# Altium schematic symbol library Display_Character.SchLib: 130 symbols (part 1 of 2)
Pins are listed as number, name and electrical type; pins without a type are passive.

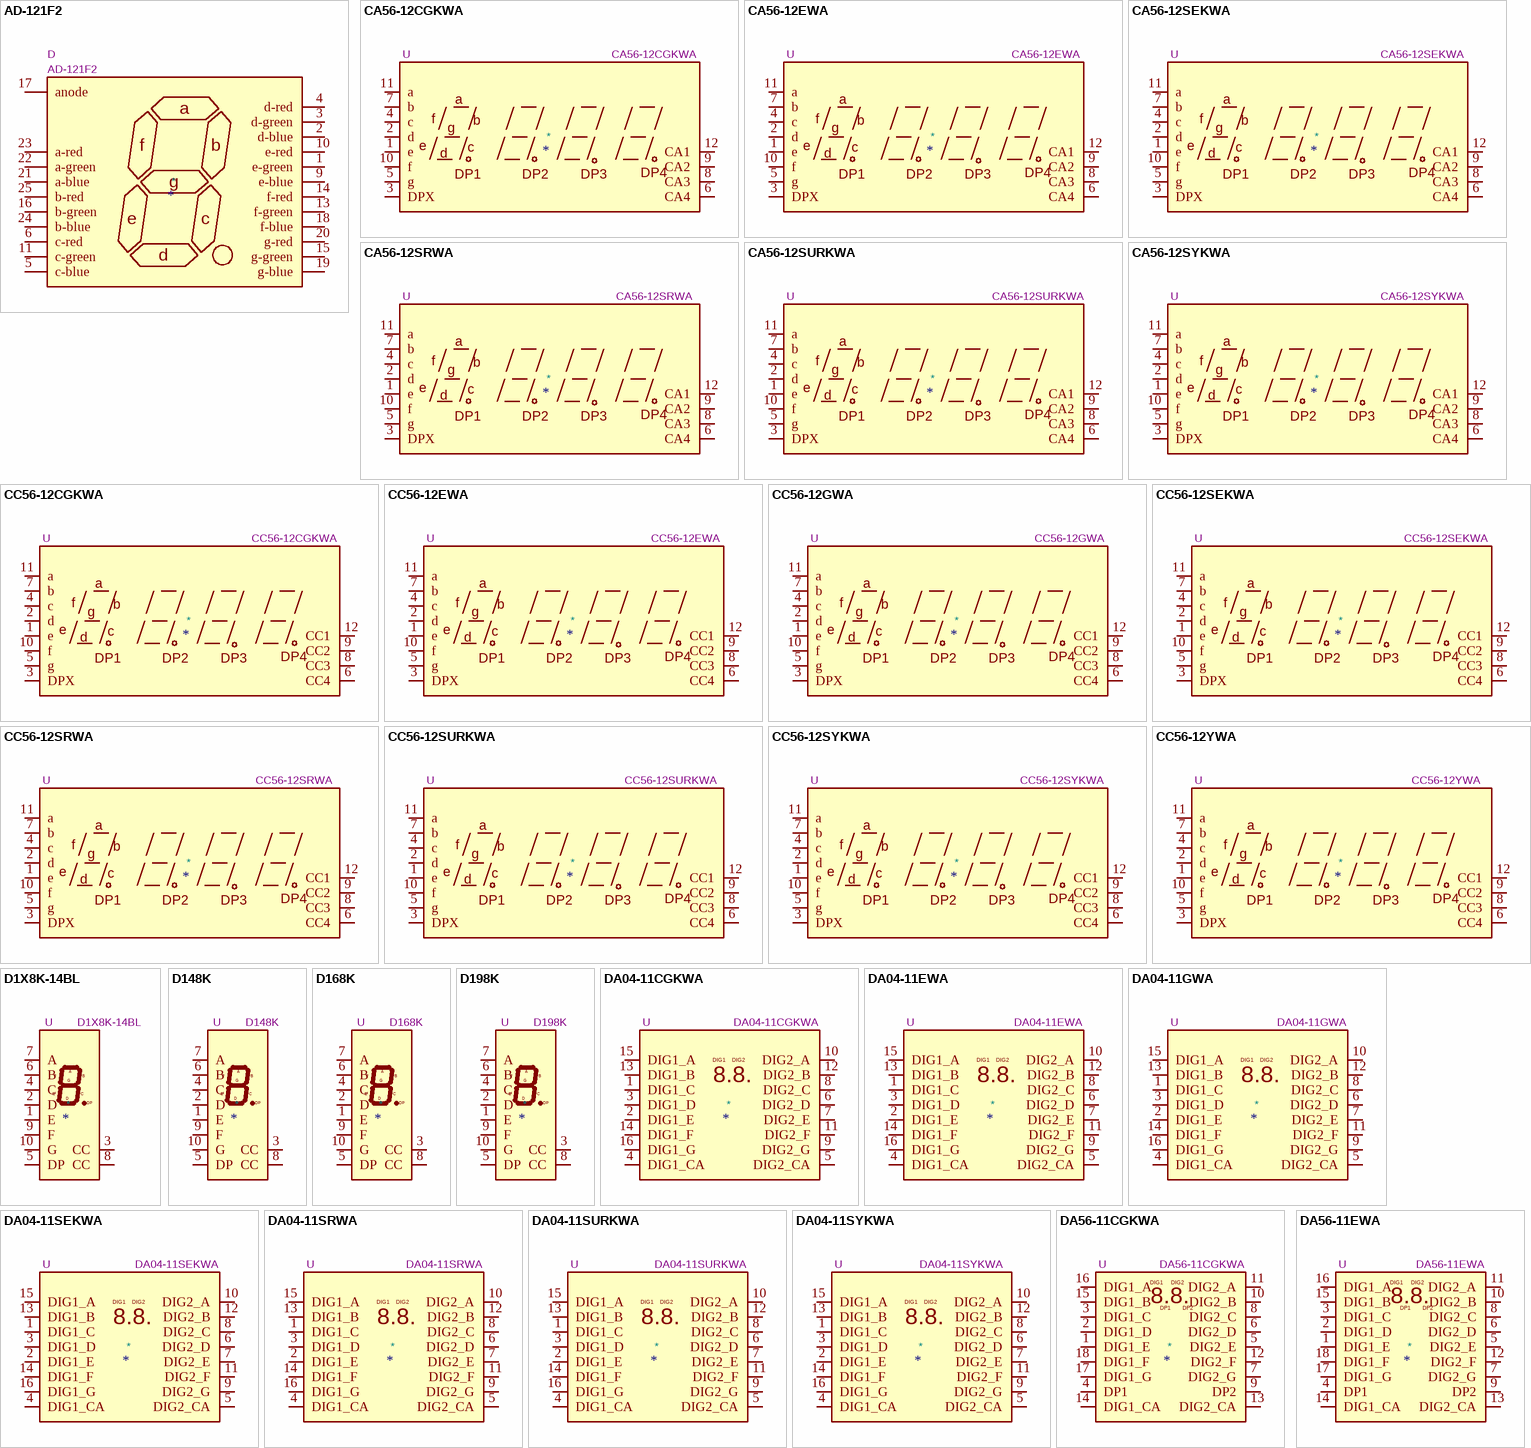
[diagram p0: symbols AD-121F2 to DA56-11EWA]

## AD-121F2
designator *  value AD-121F2  Reference: D
Single Digit 7-segment RGB LED Display, 1-inch digit height, common anode; ki_keywords: display RGB LED digit 7-segment; ki_fp_filters: AD*121F2*; Footprint: Display_7Segment:AD-121F2; Datasheet: http://usasyck.com/products/AD-121F2_cat_e.pdf; Description_: Single Digit 7-segment RGB LED Display, 1-inch digit height, common anode
pins: 1 e-green, 2 d-blue, 3 d-green, 4 d-red, 5 c-blue, 6 c-red, 9 e-blue, 10 e-red, 11 c-green, 13 f-green, 14 f-red, 15 g-green, 16 b-green, 17 anode, 18 f-blue, 19 g-blue, 20 g-red, 21 a-blue, 22 a-green, 23 a-red, 24 b-blue, 25 b-red
text: a; f; b; g; e; c; d

## CA56-12CGKWA
designator *  value CA56-12CGKWA  Reference: U
4 digit 7 segment Green LED, common anode; ki_keywords: display LED; ki_fp_filters: *CA56*12CGKWA*; Footprint: Display_7Segment:CA56-12CGKWA; Datasheet: http://www.kingbright.com/attachments/file/psearch/000/00/00/CA56-12CGKWA(Ver.9A).pdf; Description_: 4 digit 7 segment Green LED, common anode
pins: 1 e, 2 d, 3 DPX, 4 c, 5 g, 6 CA4, 7 b, 8 CA3, 9 CA2, 10 f, 11 a, 12 CA1
text: DP1; DP2; DP3; DP4

## CA56-12EWA
designator *  value CA56-12EWA  Reference: U
4 digit 7 segment high efficiency red LED, common anode; ki_keywords: display LED 7-segment; ki_fp_filters: *CA56*12EWA*; Footprint: Display_7Segment:CA56-12EWA; Datasheet: http://www.kingbrightusa.com/images/catalog/SPEC/CA56-12EWA.pdf; Description_: 4 digit 7 segment high efficiency red LED, common anode
pins: 1 e, 2 d, 3 DPX, 4 c, 5 g, 6 CA4, 7 b, 8 CA3, 9 CA2, 10 f, 11 a, 12 CA1
text: DP1; DP2; DP3; DP4

## CA56-12SEKWA
designator *  value CA56-12SEKWA  Reference: U
4 digit 7 segment super bright orange LED, common anode; ki_keywords: display LED 7-segment; ki_fp_filters: *CA56*12SEKWA*; Footprint: Display_7Segment:CA56-12SEKWA; Datasheet: http://www.kingbright.com/attachments/file/psearch/000/00/00/CA56-12SEKWA(Ver.7A).pdf; Description_: 4 digit 7 segment super bright orange LED, common anode
pins: 1 e, 2 d, 3 DPX, 4 c, 5 g, 6 CA4, 7 b, 8 CA3, 9 CA2, 10 f, 11 a, 12 CA1
text: DP1; DP2; DP3; DP4

## CA56-12SRWA
designator *  value CA56-12SRWA  Reference: U
4 digit 7 segment super bright red LED, common anode; ki_keywords: display LED 7-segment; ki_fp_filters: *CA56*12SRWA*; Footprint: Display_7Segment:CA56-12SRWA; Datasheet: http://www.kingbrightusa.com/images/catalog/SPEC/CA56-12SRWA.pdf; Description_: 4 digit 7 segment super bright red LED, common anode
pins: 1 e, 2 d, 3 DPX, 4 c, 5 g, 6 CA4, 7 b, 8 CA3, 9 CA2, 10 f, 11 a, 12 CA1
text: DP1; DP2; DP3; DP4

## CA56-12SURKWA
designator *  value CA56-12SURKWA  Reference: U
4 digit 7 segment hyper red LED, common anode; ki_keywords: display LED 7-segment; ki_fp_filters: *CA56*12SURKWA*; Footprint: Display_7Segment:CA56-12SURKWA; Datasheet: http://www.kingbright.com/attachments/file/psearch/000/00/00/CA56-12SURKWA(Ver.8A).pdf; Description_: 4 digit 7 segment hyper red LED, common anode
pins: 1 e, 2 d, 3 DPX, 4 c, 5 g, 6 CA4, 7 b, 8 CA3, 9 CA2, 10 f, 11 a, 12 CA1
text: DP1; DP2; DP3; DP4

## CA56-12SYKWA
designator *  value CA56-12SYKWA  Reference: U
4 digit 7 segment super bright yellow LED, common anode; ki_keywords: display LED 7-segment; ki_fp_filters: *CA56*12SYKWA*; Footprint: Display_7Segment:CA56-12SYKWA; Datasheet: http://www.kingbright.com/attachments/file/psearch/000/00/00/CA56-12SYKWA(Ver.6A).pdf; Description_: 4 digit 7 segment super bright yellow LED, common anode
pins: 1 e, 2 d, 3 DPX, 4 c, 5 g, 6 CA4, 7 b, 8 CA3, 9 CA2, 10 f, 11 a, 12 CA1
text: DP1; DP2; DP3; DP4

## CC56-12CGKWA
designator *  value CC56-12CGKWA  Reference: U
4 digit 7 segment green LED, common cathode; ki_keywords: display LED 7-segment; ki_fp_filters: *CA56*12CGKWA*; Footprint: Display_7Segment:CA56-12CGKWA; Datasheet: http://www.kingbright.com/attachments/file/psearch/000/00/00/CC56-12CGKWA(Ver.8A).pdf; Description_: 4 digit 7 segment green LED, common cathode
pins: 1 e, 2 d, 3 DPX, 4 c, 5 g, 6 CC4, 7 b, 8 CC3, 9 CC2, 10 f, 11 a, 12 CC1
text: DP1; DP2; DP3; DP4

## CC56-12EWA
designator *  value CC56-12EWA  Reference: U
4 digit 7 segment high efficiency red LED, common cathode; ki_keywords: display LED 7-segment; ki_fp_filters: *CA56*12EWA*; Footprint: Display_7Segment:CA56-12EWA; Datasheet: http://www.kingbrightusa.com/images/catalog/SPEC/CA56-12EWA.pdf; Description_: 4 digit 7 segment high efficiency red LED, common cathode
pins: 1 e, 2 d, 3 DPX, 4 c, 5 g, 6 CC4, 7 b, 8 CC3, 9 CC2, 10 f, 11 a, 12 CC1
text: DP1; DP2; DP3; DP4

## CC56-12GWA
designator *  value CC56-12GWA  Reference: U
4 digit 7 segment green LED, common cathode; ki_keywords: display LED 7-segment; ki_fp_filters: CC56?12GWA*; Footprint: Display_7Segment:CC56-12GWA; Datasheet: http://www.kingbrightusa.com/images/catalog/SPEC/CC56-12GWA.pdf; Description_: 4 digit 7 segment green LED, common cathode
pins: 1 e, 2 d, 3 DPX, 4 c, 5 g, 6 CC4, 7 b, 8 CC3, 9 CC2, 10 f, 11 a, 12 CC1
text: DP1; DP2; DP3; DP4

## CC56-12SEKWA
designator *  value CC56-12SEKWA  Reference: U
4 digit 7 segment super bright orange LED, common cathode; ki_keywords: display LED 7-segment; ki_fp_filters: *CA56*12SEKWA*; Footprint: Display_7Segment:CA56-12SEKWA; Datasheet: http://www.kingbright.com/attachments/file/psearch/000/00/00/CC56-12SEKWA(Ver.7A).pdf; Description_: 4 digit 7 segment super bright orange LED, common cathode
pins: 1 e, 2 d, 3 DPX, 4 c, 5 g, 6 CC4, 7 b, 8 CC3, 9 CC2, 10 f, 11 a, 12 CC1
text: DP1; DP2; DP3; DP4

## CC56-12SRWA
designator *  value CC56-12SRWA  Reference: U
4 digit 7 segment super bright red LED, common cathode; ki_keywords: display LED 7-segment; ki_fp_filters: *CA56*12SRWA*; Footprint: Display_7Segment:CA56-12SRWA; Datasheet: http://www.kingbrightusa.com/images/catalog/SPEC/CC56-12SRWA.pdf; Description_: 4 digit 7 segment super bright red LED, common cathode
pins: 1 e, 2 d, 3 DPX, 4 c, 5 g, 6 CC4, 7 b, 8 CC3, 9 CC2, 10 f, 11 a, 12 CC1
text: DP1; DP2; DP3; DP4

## CC56-12SURKWA
designator *  value CC56-12SURKWA  Reference: U
4 digit 7 segment hyper red LED, common cathode; ki_keywords: display LED 7-segment; ki_fp_filters: *CA56*12SURKWA*; Footprint: Display_7Segment:CA56-12SURKWA; Datasheet: http://www.kingbright.com/attachments/file/psearch/000/00/00/CC56-12SURKWA(Ver.7A).pdf; Description_: 4 digit 7 segment hyper red LED, common cathode
pins: 1 e, 2 d, 3 DPX, 4 c, 5 g, 6 CC4, 7 b, 8 CC3, 9 CC2, 10 f, 11 a, 12 CC1
text: DP1; DP2; DP3; DP4

## CC56-12SYKWA
designator *  value CC56-12SYKWA  Reference: U
4 digit 7 segment super bright yellow LED, common cathode; ki_keywords: display LED 7-segment; ki_fp_filters: *CA56*12SYKWA*; Footprint: Display_7Segment:CA56-12SYKWA; Datasheet: http://www.kingbright.com/attachments/file/psearch/000/00/00/CC56-12SYKWA(Ver.6A).pdf; Description_: 4 digit 7 segment super bright yellow LED, common cathode
pins: 1 e, 2 d, 3 DPX, 4 c, 5 g, 6 CC4, 7 b, 8 CC3, 9 CC2, 10 f, 11 a, 12 CC1
text: DP1; DP2; DP3; DP4

## CC56-12YWA
designator *  value CC56-12YWA  Reference: U
4 digit 7 segment  yellow LED, common cathode; ki_keywords: display LED 7-segment; ki_fp_filters: CC56?12YWA*; Footprint: Display_7Segment:CC56-12YWA; Datasheet: http://www.kingbrightusa.com/images/catalog/SPEC/CC56-12YWA.pdf; Description_: 4 digit 7 segment  yellow LED, common cathode
pins: 1 e, 2 d, 3 DPX, 4 c, 5 g, 6 CC4, 7 b, 8 CC3, 9 CC2, 10 f, 11 a, 12 CC1
text: DP1; DP2; DP3; DP4

## D1X8K-14BL
designator *  value D1X8K-14BL  Reference: U
One digit 7 segment ultra bright blue LED, low current, common cathode; ki_keywords: display LED 7-segment; ki_fp_filters: D1X8K*; Footprint: Display_7Segment:D1X8K; Datasheet: https://ia800903.us.archive.org/24/items/CTKD1x8K/Cromatek%20D168K.pdf; Description_: One digit 7 segment ultra bright blue LED, low current, common cathode
pins: 1 E, 2 D, 3 CC, 4 C, 5 DP, 6 B, 7 A, 8 CC, 9 F, 10 G

## D148K
designator *  value D148K  Reference: U
One digit 7 segment yellowish-green LED, low current, common cathode; ki_keywords: display LED 7-segment; ki_fp_filters: D1X8K*; Footprint: Display_7Segment:D1X8K; Datasheet: https://ia800903.us.archive.org/24/items/CTKD1x8K/Cromatek%20D168K.pdf; Description_: One digit 7 segment yellowish-green LED, low current, common cathode
pins: 1 E, 2 D, 3 CC, 4 C, 5 DP, 6 B, 7 A, 8 CC, 9 F, 10 G

## D168K
designator *  value D168K  Reference: U
One digit 7 segment ultra bright red LED, low current, common cathode; ki_keywords: display LED 7-segment; ki_fp_filters: D1X8K*; Footprint: Display_7Segment:D1X8K; Datasheet: https://ia800903.us.archive.org/24/items/CTKD1x8K/Cromatek%20D168K.pdf; Description_: One digit 7 segment ultra bright red LED, low current, common cathode
pins: 1 E, 2 D, 3 CC, 4 C, 5 DP, 6 B, 7 A, 8 CC, 9 F, 10 G

## D198K
designator *  value D198K  Reference: U
One digit 7 segment orangish-red LED, low current, common cathode; ki_keywords: display LED 7-segment; ki_fp_filters: D1X8K*; Footprint: Display_7Segment:D1X8K; Datasheet: https://ia800903.us.archive.org/24/items/CTKD1x8K/Cromatek%20D168K.pdf; Description_: One digit 7 segment orangish-red LED, low current, common cathode
pins: 1 E, 2 D, 3 CC, 4 C, 5 DP, 6 B, 7 A, 8 CC, 9 F, 10 G

## DA04-11CGKWA
designator *  value DA04-11CGKWA  Reference: U
Double 7 segment green LED common anode; ki_keywords: display LED 7-segment; ki_fp_filters: *DA04*11*; Footprint: Display_7Segment:DA04-11CGKWA; Datasheet: http://www.kingbright.com/attachments/file/psearch/000/00/00/DA04-11CGKWA(Ver.6A).pdf; Description_: Double 7 segment green LED common anode
pins: 1 DIG1_C, 2 DIG1_E, 3 DIG1_D, 4 DIG1_CA, 5 DIG2_CA, 6 DIG2_D, 7 DIG2_E, 8 DIG2_C, 9 DIG2_G, 10 DIG2_A, 11 DIG2_F, 12 DIG2_B, 13 DIG1_B, 14 DIG1_F, 15 DIG1_A, 16 DIG1_G
text: DIG1; DIG2; 8.8.

## DA04-11EWA
designator *  value DA04-11EWA  Reference: U
Double 7 segment high efficient red LED common anode; ki_keywords: display LED 7-segment; ki_fp_filters: *DA04*11*; Footprint: Display_7Segment:DA04-11SURKWA; Datasheet: http://www.kingbrightusa.com/images/catalog/SPEC/DA04-11EWA.pdf; Description_: Double 7 segment high efficient red LED common anode
pins: 1 DIG1_C, 2 DIG1_E, 3 DIG1_D, 4 DIG1_CA, 5 DIG2_CA, 6 DIG2_D, 7 DIG2_E, 8 DIG2_C, 9 DIG2_G, 10 DIG2_A, 11 DIG2_F, 12 DIG2_B, 13 DIG1_B, 14 DIG1_F, 15 DIG1_A, 16 DIG1_G
text: DIG1; DIG2; 8.8.

## DA04-11GWA
designator *  value DA04-11GWA  Reference: U
Double 7 segment green LED common anode; ki_keywords: display LED 7-segment; ki_fp_filters: *DA04*11*; Footprint: Display_7Segment:DA04-11CGKWA; Datasheet: http://www.kingbrightusa.com/images/catalog/SPEC/DA04-11GWA.pdf; Description_: Double 7 segment green LED common anode
pins: 1 DIG1_C, 2 DIG1_E, 3 DIG1_D, 4 DIG1_CA, 5 DIG2_CA, 6 DIG2_D, 7 DIG2_E, 8 DIG2_C, 9 DIG2_G, 10 DIG2_A, 11 DIG2_F, 12 DIG2_B, 13 DIG1_B, 14 DIG1_F, 15 DIG1_A, 16 DIG1_G
text: DIG1; DIG2; 8.8.

## DA04-11SEKWA
designator *  value DA04-11SEKWA  Reference: U
Double 7 segment super bright orange LED common anode; ki_keywords: display LED 7-segment; ki_fp_filters: *DA04*11*; Footprint: Display_7Segment:DA04-11SEKWA; Datasheet: http://www.kingbright.com/attachments/file/psearch/000/00/00/DA04-11SEKWA(Ver.9A).pdf; Description_: Double 7 segment super bright orange LED common anode
pins: 1 DIG1_C, 2 DIG1_E, 3 DIG1_D, 4 DIG1_CA, 5 DIG2_CA, 6 DIG2_D, 7 DIG2_E, 8 DIG2_C, 9 DIG2_G, 10 DIG2_A, 11 DIG2_F, 12 DIG2_B, 13 DIG1_B, 14 DIG1_F, 15 DIG1_A, 16 DIG1_G
text: DIG1; DIG2; 8.8.

## DA04-11SRWA
designator *  value DA04-11SRWA  Reference: U
Double 7 segment super bright red LED common anode; ki_keywords: display LED 7-segment; ki_fp_filters: *DA04*11*; Footprint: Display_7Segment:DA04-11SURKWA; Datasheet: http://www.kingbrightusa.com/images/catalog/SPEC/DA04-11SRWA.pdf; Description_: Double 7 segment super bright red LED common anode
pins: 1 DIG1_C, 2 DIG1_E, 3 DIG1_D, 4 DIG1_CA, 5 DIG2_CA, 6 DIG2_D, 7 DIG2_E, 8 DIG2_C, 9 DIG2_G, 10 DIG2_A, 11 DIG2_F, 12 DIG2_B, 13 DIG1_B, 14 DIG1_F, 15 DIG1_A, 16 DIG1_G
text: DIG1; DIG2; 8.8.

## DA04-11SURKWA
designator *  value DA04-11SURKWA  Reference: U
Double 7 segment hyper red LED common anode; ki_keywords: display LED 7-segment; ki_fp_filters: *DA04*11*; Footprint: Display_7Segment:DA04-11SURKWA; Datasheet: http://www.kingbright.com/attachments/file/psearch/000/00/00/DA04-11SURKWA(Ver.10A).pdf; Description_: Double 7 segment hyper red LED common anode
pins: 1 DIG1_C, 2 DIG1_E, 3 DIG1_D, 4 DIG1_CA, 5 DIG2_CA, 6 DIG2_D, 7 DIG2_E, 8 DIG2_C, 9 DIG2_G, 10 DIG2_A, 11 DIG2_F, 12 DIG2_B, 13 DIG1_B, 14 DIG1_F, 15 DIG1_A, 16 DIG1_G
text: DIG1; DIG2; 8.8.

## DA04-11SYKWA
designator *  value DA04-11SYKWA  Reference: U
Double 7 segment super bright yellow LED common anode; ki_keywords: display LED 7-segment; ki_fp_filters: *DA04*11*; Footprint: Display_7Segment:DA04-11SYKWA; Datasheet: http://www.kingbright.com/attachments/file/psearch/000/00/00/DA04-11SYKWA(Ver.6A).pdf; Description_: Double 7 segment super bright yellow LED common anode
pins: 1 DIG1_C, 2 DIG1_E, 3 DIG1_D, 4 DIG1_CA, 5 DIG2_CA, 6 DIG2_D, 7 DIG2_E, 8 DIG2_C, 9 DIG2_G, 10 DIG2_A, 11 DIG2_F, 12 DIG2_B, 13 DIG1_B, 14 DIG1_F, 15 DIG1_A, 16 DIG1_G
text: DIG1; DIG2; 8.8.

## DA56-11CGKWA
designator *  value DA56-11CGKWA  Reference: U
Double digit 7 segment green LED common anode; ki_keywords: display LED 7-segment; ki_fp_filters: *DA56*11*; Footprint: Display_7Segment:DA56-11CGKWA; Datasheet: http://www.kingbright.com/attachments/file/psearch/000/00/00/DA56-11CGKWA(Ver.16A).pdf; Description_: Double digit 7 segment green LED common anode
pins: 1 DIG1_E, 2 DIG1_D, 3 DIG1_C, 4 DP1, 5 DIG2_E, 6 DIG2_D, 7 DIG2_G, 8 DIG2_C, 9 DP2, 10 DIG2_B, 11 DIG2_A, 12 DIG2_F, 13 DIG2_CA, 14 DIG1_CA, 15 DIG1_B, 16 DIG1_A, 17 DIG1_G, 18 DIG1_F
text: DIG1; DIG2; 8.8.

## DA56-11EWA
designator *  value DA56-11EWA  Reference: U
Double digit 7 segment high efficient red LED common anode; ki_keywords: display LED 7-segment; ki_fp_filters: *DA56*11*; Footprint: Display_7Segment:DA56-11SURKWA; Datasheet: http://www.kingbrightusa.com/images/catalog/SPEC/DA56-11EWA.pdf; Description_: Double digit 7 segment high efficient red LED common anode
pins: 1 DIG1_E, 2 DIG1_D, 3 DIG1_C, 4 DP1, 5 DIG2_E, 6 DIG2_D, 7 DIG2_G, 8 DIG2_C, 9 DP2, 10 DIG2_B, 11 DIG2_A, 12 DIG2_F, 13 DIG2_CA, 14 DIG1_CA, 15 DIG1_B, 16 DIG1_A, 17 DIG1_G, 18 DIG1_F
text: DIG1; DIG2; 8.8.

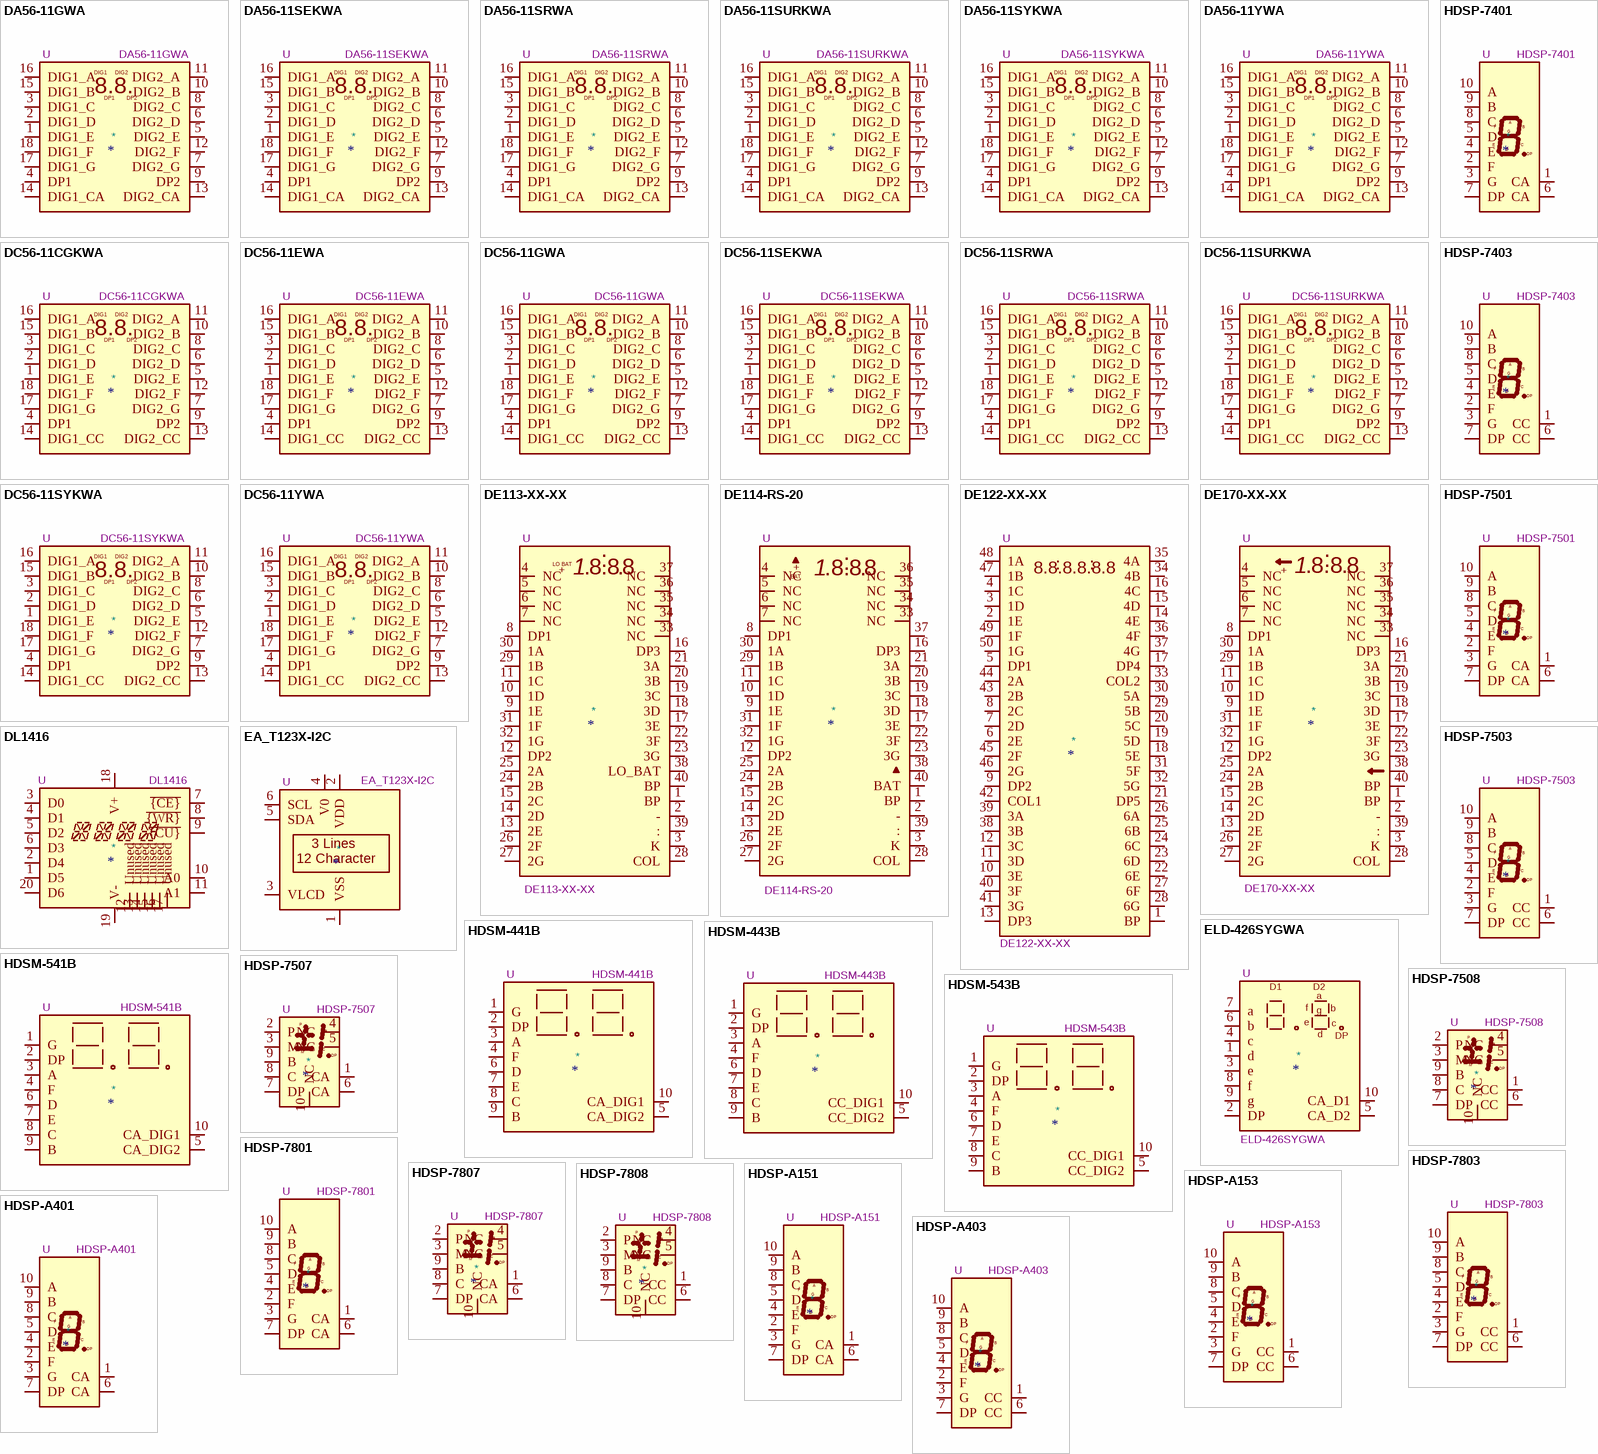
[diagram p1: symbols DA56-11GWA to HDSP-A403]

## DA56-11GWA
designator *  value DA56-11GWA  Reference: U
Double digit 7 segment green LED common anode; ki_keywords: display LED 7-segment; ki_fp_filters: *DA56*11*; Footprint: Display_7Segment:DA56-11CGKWA; Datasheet: http://www.kingbrightusa.com/images/catalog/SPEC/DA56-11GWA.pdf; Description_: Double digit 7 segment green LED common anode
pins: 1 DIG1_E, 2 DIG1_D, 3 DIG1_C, 4 DP1, 5 DIG2_E, 6 DIG2_D, 7 DIG2_G, 8 DIG2_C, 9 DP2, 10 DIG2_B, 11 DIG2_A, 12 DIG2_F, 13 DIG2_CA, 14 DIG1_CA, 15 DIG1_B, 16 DIG1_A, 17 DIG1_G, 18 DIG1_F
text: DIG1; DIG2; 8.8.

## DA56-11SEKWA
designator *  value DA56-11SEKWA  Reference: U
Double digit 7 segment super bright orange LED common anode; ki_keywords: display LED 7-segment; ki_fp_filters: *DA56*11*; Footprint: Display_7Segment:DA56-11SEKWA; Datasheet: http://www.kingbright.com/attachments/file/psearch/000/00/00/DA56-11SEKWA(Ver.9A).pdf; Description_: Double digit 7 segment super bright orange LED common anode
pins: 1 DIG1_E, 2 DIG1_D, 3 DIG1_C, 4 DP1, 5 DIG2_E, 6 DIG2_D, 7 DIG2_G, 8 DIG2_C, 9 DP2, 10 DIG2_B, 11 DIG2_A, 12 DIG2_F, 13 DIG2_CA, 14 DIG1_CA, 15 DIG1_B, 16 DIG1_A, 17 DIG1_G, 18 DIG1_F
text: DIG1; DIG2; 8.8.

## DA56-11SRWA
designator *  value DA56-11SRWA  Reference: U
Double digit 7 segment super bright red LED common anode; ki_keywords: display LED 7-segment; ki_fp_filters: *DA56*11*; Footprint: Display_7Segment:DA56-11SURKWA; Datasheet: http://www.kingbrightusa.com/images/catalog/SPEC/DA56-11SRWA.pdf; Description_: Double digit 7 segment super bright red LED common anode
pins: 1 DIG1_E, 2 DIG1_D, 3 DIG1_C, 4 DP1, 5 DIG2_E, 6 DIG2_D, 7 DIG2_G, 8 DIG2_C, 9 DP2, 10 DIG2_B, 11 DIG2_A, 12 DIG2_F, 13 DIG2_CA, 14 DIG1_CA, 15 DIG1_B, 16 DIG1_A, 17 DIG1_G, 18 DIG1_F
text: DIG1; DIG2; 8.8.

## DA56-11SURKWA
designator *  value DA56-11SURKWA  Reference: U
Double digit 7 segment hyper red LED common anode; ki_keywords: display LED 7-segment; ki_fp_filters: *DA56*11*; Footprint: Display_7Segment:DA56-11SURKWA; Datasheet: http://www.kingbright.com/attachments/file/psearch/000/00/00/DA56-11SURKWA(Ver.11A).pdf; Description_: Double digit 7 segment hyper red LED common anode
pins: 1 DIG1_E, 2 DIG1_D, 3 DIG1_C, 4 DP1, 5 DIG2_E, 6 DIG2_D, 7 DIG2_G, 8 DIG2_C, 9 DP2, 10 DIG2_B, 11 DIG2_A, 12 DIG2_F, 13 DIG2_CA, 14 DIG1_CA, 15 DIG1_B, 16 DIG1_A, 17 DIG1_G, 18 DIG1_F
text: DIG1; DIG2; 8.8.

## DA56-11SYKWA
designator *  value DA56-11SYKWA  Reference: U
Double digit 7 segment super bright yellow LED common anode; ki_keywords: display LED 7-segment; ki_fp_filters: *DA56*11*; Footprint: Display_7Segment:DA56-11SYKWA; Datasheet: http://www.kingbright.com/attachments/file/psearch/000/00/00/DA56-11SYKWA(Ver.11A).pdf; Description_: Double digit 7 segment super bright yellow LED common anode
pins: 1 DIG1_E, 2 DIG1_D, 3 DIG1_C, 4 DP1, 5 DIG2_E, 6 DIG2_D, 7 DIG2_G, 8 DIG2_C, 9 DP2, 10 DIG2_B, 11 DIG2_A, 12 DIG2_F, 13 DIG2_CA, 14 DIG1_CA, 15 DIG1_B, 16 DIG1_A, 17 DIG1_G, 18 DIG1_F
text: DIG1; DIG2; 8.8.

## DA56-11YWA
designator *  value DA56-11YWA  Reference: U
Double digit 7 segment super bright yellow LED common anode; ki_keywords: display LED 7-segment; ki_fp_filters: *DA56*11*; Footprint: Display_7Segment:DA56-11SYKWA; Datasheet: http://www.kingbrightusa.com/images/catalog/SPEC/DA56-11YWA.pdf; Description_: Double digit 7 segment super bright yellow LED common anode
pins: 1 DIG1_E, 2 DIG1_D, 3 DIG1_C, 4 DP1, 5 DIG2_E, 6 DIG2_D, 7 DIG2_G, 8 DIG2_C, 9 DP2, 10 DIG2_B, 11 DIG2_A, 12 DIG2_F, 13 DIG2_CA, 14 DIG1_CA, 15 DIG1_B, 16 DIG1_A, 17 DIG1_G, 18 DIG1_F
text: DIG1; DIG2; 8.8.

## DC56-11CGKWA
designator *  value DC56-11CGKWA  Reference: U
Double digit 7 segment green LED common cathode; ki_keywords: display LED 7-segment; ki_fp_filters: *DA56*11*; Footprint: Display_7Segment:DA56-11CGKWA; Datasheet: http://www.kingbright.com/attachments/file/psearch/000/00/00/DC56-11CGKWA(Ver.7A).pdf; Description_: Double digit 7 segment green LED common cathode
pins: 1 DIG1_E, 2 DIG1_D, 3 DIG1_C, 4 DP1, 5 DIG2_E, 6 DIG2_D, 7 DIG2_G, 8 DIG2_C, 9 DP2, 10 DIG2_B, 11 DIG2_A, 12 DIG2_F, 13 DIG2_CC, 14 DIG1_CC, 15 DIG1_B, 16 DIG1_A, 17 DIG1_G, 18 DIG1_F
text: DIG1; DIG2; 8.8.

## DC56-11EWA
designator *  value DC56-11EWA  Reference: U
Double digit 7 segment super bright red LED common cathode; ki_keywords: display LED 7-segment; ki_fp_filters: *DA56*11*; Footprint: Display_7Segment:DA56-11SURKWA; Datasheet: http://www.kingbrightusa.com/images/catalog/SPEC/DC56-11EWA.pdf; Description_: Double digit 7 segment super bright red LED common cathode
pins: 1 DIG1_E, 2 DIG1_D, 3 DIG1_C, 4 DP1, 5 DIG2_E, 6 DIG2_D, 7 DIG2_G, 8 DIG2_C, 9 DP2, 10 DIG2_B, 11 DIG2_A, 12 DIG2_F, 13 DIG2_CC, 14 DIG1_CC, 15 DIG1_B, 16 DIG1_A, 17 DIG1_G, 18 DIG1_F
text: DIG1; DIG2; 8.8.

## DC56-11GWA
designator *  value DC56-11GWA  Reference: U
Double digit 7 segment green LED common cathode; ki_keywords: display LED 7-segment; ki_fp_filters: *DA56*11*; Footprint: Display_7Segment:DA56-11CGKWA; Datasheet: http://www.kingbrightusa.com/images/catalog/SPEC/DC56-11GWA.pdf; Description_: Double digit 7 segment green LED common cathode
pins: 1 DIG1_E, 2 DIG1_D, 3 DIG1_C, 4 DP1, 5 DIG2_E, 6 DIG2_D, 7 DIG2_G, 8 DIG2_C, 9 DP2, 10 DIG2_B, 11 DIG2_A, 12 DIG2_F, 13 DIG2_CC, 14 DIG1_CC, 15 DIG1_B, 16 DIG1_A, 17 DIG1_G, 18 DIG1_F
text: DIG1; DIG2; 8.8.

## DC56-11SEKWA
designator *  value DC56-11SEKWA  Reference: U
Double digit 7 segment super bright orange LED common cathode; ki_keywords: display LED 7-segment; ki_fp_filters: *DA56*11*; Footprint: Display_7Segment:DA56-11SEKWA; Datasheet: http://www.kingbright.com/attachments/file/psearch/000/00/00/DA56-11SEKWA(Ver.9A).pdf; Description_: Double digit 7 segment super bright orange LED common cathode
pins: 1 DIG1_E, 2 DIG1_D, 3 DIG1_C, 4 DP1, 5 DIG2_E, 6 DIG2_D, 7 DIG2_G, 8 DIG2_C, 9 DP2, 10 DIG2_B, 11 DIG2_A, 12 DIG2_F, 13 DIG2_CC, 14 DIG1_CC, 15 DIG1_B, 16 DIG1_A, 17 DIG1_G, 18 DIG1_F
text: DIG1; DIG2; 8.8.

## DC56-11SRWA
designator *  value DC56-11SRWA  Reference: U
Double digit 7 segment super bright red LED common cathode; ki_keywords: display LED 7-segment; ki_fp_filters: *DA56*11*; Footprint: Display_7Segment:DA56-11SURKWA; Datasheet: http://www.kingbrightusa.com/images/catalog/SPEC/DC56-11SRWA.pdf; Description_: Double digit 7 segment super bright red LED common cathode
pins: 1 DIG1_E, 2 DIG1_D, 3 DIG1_C, 4 DP1, 5 DIG2_E, 6 DIG2_D, 7 DIG2_G, 8 DIG2_C, 9 DP2, 10 DIG2_B, 11 DIG2_A, 12 DIG2_F, 13 DIG2_CC, 14 DIG1_CC, 15 DIG1_B, 16 DIG1_A, 17 DIG1_G, 18 DIG1_F
text: DIG1; DIG2; 8.8.

## DC56-11SURKWA
designator *  value DC56-11SURKWA  Reference: U
Double digit 7 segment hyper red LED common cathode; ki_keywords: display LED 7-segment; ki_fp_filters: *DA56*11*; Footprint: Display_7Segment:DA56-11SURKWA; Datasheet: http://www.kingbright.com/attachments/file/psearch/000/00/00/DC56-11SURKWA(Ver.8A).pdf; Description_: Double digit 7 segment hyper red LED common cathode
pins: 1 DIG1_E, 2 DIG1_D, 3 DIG1_C, 4 DP1, 5 DIG2_E, 6 DIG2_D, 7 DIG2_G, 8 DIG2_C, 9 DP2, 10 DIG2_B, 11 DIG2_A, 12 DIG2_F, 13 DIG2_CC, 14 DIG1_CC, 15 DIG1_B, 16 DIG1_A, 17 DIG1_G, 18 DIG1_F
text: DIG1; DIG2; 8.8.

## DC56-11SYKWA
designator *  value DC56-11SYKWA  Reference: U
Double digit 7 segment super bright yellow LED common cathode; ki_keywords: display LED 7-segment; ki_fp_filters: *DA56*11*; Footprint: Display_7Segment:DA56-11SYKWA; Datasheet: http://www.kingbright.com/attachments/file/psearch/000/00/00/DC56-11SYKWA(Ver.7A).pdf; Description_: Double digit 7 segment super bright yellow LED common cathode
pins: 1 DIG1_E, 2 DIG1_D, 3 DIG1_C, 4 DP1, 5 DIG2_E, 6 DIG2_D, 7 DIG2_G, 8 DIG2_C, 9 DP2, 10 DIG2_B, 11 DIG2_A, 12 DIG2_F, 13 DIG2_CC, 14 DIG1_CC, 15 DIG1_B, 16 DIG1_A, 17 DIG1_G, 18 DIG1_F
text: DIG1; DIG2; 8.8.

## DC56-11YWA
designator *  value DC56-11YWA  Reference: U
Double digit 7 segment yellow LED common cathode; ki_keywords: display LED 7-segment; ki_fp_filters: *DA56*11*; Footprint: Display_7Segment:DA56-11SYKWA; Datasheet: http://www.kingbrightusa.com/images/catalog/SPEC/DC56-11YWA.pdf; Description_: Double digit 7 segment yellow LED common cathode
pins: 1 DIG1_E, 2 DIG1_D, 3 DIG1_C, 4 DP1, 5 DIG2_E, 6 DIG2_D, 7 DIG2_G, 8 DIG2_C, 9 DP2, 10 DIG2_B, 11 DIG2_A, 12 DIG2_F, 13 DIG2_CC, 14 DIG1_CC, 15 DIG1_B, 16 DIG1_A, 17 DIG1_G, 18 DIG1_F
text: DIG1; DIG2; 8.8.

## DE113-XX-XX
designator *  value DE113-XX-XX  Reference: U
3 and half digit 7 segment transmissive standard LCD with LO BAT, pin length 7.5mm, -20°C to +70°C, 3V-5V VDD; ki_keywords: display LCD 7-segment; ki_fp_filters: *DE*113*; Footprint: Display_7Segment:DE113-XX-XX; Datasheet: http://www.display-elektronik.de/filter/DE113-MS-20_75.pdf; Description_: 3 and half digit 7 segment transmissive standard LCD with LO BAT, pin length 7.5mm, -20°C to +70°C, 3V-5V VDD
pins: 1 BP, 2 -, 3 K, 4 NC, 5 NC, 6 NC, 7 NC, 8 DP1, 9 1E, 10 1D, 11 1C, 12 DP2, 13 2E, 14 2D, 15 2C, 16 DP3, 17 3E, 18 3D, 19 3C, 20 3B, 21 3A, 22 3F, 23 3G, 24 2B, 25 2A, 26 2F, 27 2G, 28 COL, 29 1B, 30 1A, 31 1F, 32 1G, 33 NC, 34 NC, 35 NC, 36 NC, 37 NC, 38 LO_BAT, 39 :, 40 BP
text: LO BAT; +; .

## DE114-RS-20
designator *  value DE114-RS-20  Reference: U
3 and half digit 7 segment reflective standard LCD with ~~ and BAT, pin length 6.35mm, -20°C to +70°C, 3V-5V VDD; ki_keywords: display LCD 7-segment; ki_fp_filters: *DE*114*RS*20*; Footprint: Display_7Segment:DE114-RS-20; Datasheet: http://www.display-elektronik.de/filter/DE114-RS-20_635.pdf; Description_: 3 and half digit 7 segment reflective standard LCD with ~~ and BAT, pin length 6.35mm, -20°C to +70°C, 3V-5V VDD
pins: 1 BP, 2 -, 3 K, 4 NC, 5 NC, 6 NC, 7 NC, 8 DP1, 9 1E, 10 1D, 11 1C, 12 DP2, 13 2E, 14 2D, 15 2C, 16 DP3, 17 3E, 18 3D, 19 3C, 20 3B, 21 3A, 22 3F, 23 3G, 24 2B, 25 2A, 26 2F, 27 2G, 28 COL, 29 1B, 30 1A, 31 1F, 32 1G, 33 NC, 34 NC, 35 NC, 36 NC, 37, 38, 39 :, 40 BAT
text: +; .

## DE122-XX-XX
designator *  value DE122-XX-XX  Reference: U
6 digit 7 segment reflective standard LCD, pin length 6.35mm, -20°C to +70°C, 3V-5V VDD; ki_keywords: display LCD 7-segment; ki_fp_filters: DE122?XX?XX*; Footprint: Display_7Segment:DE122-XX-XX; Datasheet: http://www.display-elektronik.de/filter/DE122-RS-20_635.pdf; Description_: 6 digit 7 segment reflective standard LCD, pin length 6.35mm, -20°C to +70°C, 3V-5V VDD
pins: 1 BP, 2 1E, 3 1D, 4 1C, 5 DP1, 6 2E, 7 2D, 8 2C, 9 DP2, 10 3E, 11 3D, 12 3C, 13 DP3, 14 4E, 15 4D, 16 4C, 17 DP4, 18 5E, 19 5D, 20 5C, 21 DP5, 22 6E, 23 6D, 24 6C, 25 6B, 26 6A, 27 6F, 28 6G, 29 5B, 30 5A, 31 5F, 32 5G, 33 COL2, 34 4B, 35 4A, 36 4F, 37 4G, 38 3B, 39 3A, 40 3F, 41 3G, 42 COL1, 43 2B, 44 2A, 45 2F, 46 2G, 47 1B, 48 1A, 49 1F, 50 1G
text: :; 8.8.8.8.8.8

## DE170-XX-XX
designator *  value DE170-XX-XX  Reference: U
3 and half digit 7 segment reflective standard LCD with arrow, pin length 7.5mm, -20°C to +70°C, 3V-5V VDD; ki_keywords: display LCD 7-segment; ki_fp_filters: DE170?XX?XX*; Footprint: Display_7Segment:DE170-XX-XX; Datasheet: http://www.display-elektronik.de/filter/DE170-RS-20_75.pdf; Description_: 3 and half digit 7 segment reflective standard LCD with arrow, pin length 7.5mm, -20°C to +70°C, 3V-5V VDD
pins: 1 BP, 2 -, 3 K, 4 NC, 5 NC, 6 NC, 7 NC, 8 DP1, 9 1E, 10 1D, 11 1C, 12 DP2, 13 2E, 14 2D, 15 2C, 16 DP3, 17 3E, 18 3D, 19 3C, 20 3B, 21 3A, 22 3F, 23 3G, 24 2B, 25 2A, 26 2F, 27 2G, 28 COL, 29 1B, 30 1A, 31 1F, 32 1G, 33 NC, 34 NC, 35 NC, 36 NC, 37 NC, 38, 39 :, 40 BP
text: +; .

## DL1416
designator *  value DL1416  Reference: U
.160", 4-Digit 16-Segment plus decimal alphanumeric intelligent display with Memory/Decoder/Driver; ki_keywords: Alphanumeric 16-segment display; ki_fp_filters: DL1416*; Footprint: Display:DL1416; Datasheet: https://partstack.com/resources/pdf/images/VipMasterIC/IC/INFN/INFNS19899/INFNS19899-1.pdf; Description_: .160", 4-Digit 16-Segment plus decimal alphanumeric intelligent display with Memory/Decoder/Driver
pins: 1 D5, 2 D4, 3 D0, 4 D1, 5 D2, 6 D3, 7 ~{{CE}}, 8 ~{{WR}}, 9 ~{{CU}}, 10 A0, 11 A1, 12 Unused, 13 Unused, 14 Unused, 15 Unused, 16 Unused, 17 Unused, 18 V+, 19 V-, 20 D6

## EA_T123X-I2C
designator *  value EA_T123X-I2C  Reference: U
3 Lines, 12 character alpha numeric LCD, transreflective STN and FSTN Gray, I2C, single or dual power; ki_keywords: display LCD 7-segment; ki_fp_filters: EA?T123X?I2C*; Footprint: Display:EA_T123X-I2C; Datasheet: http://www.lcd-module.de/pdf/doma/t123-i2c.pdf; Description_: 3 Lines, 12 character alpha numeric LCD, transreflective STN and FSTN Gray, I2C, single or dual power
pins: 1 VSS, 2 VDD, 3 VLCD, 4 V0, 5 SDA, 6 SCL
text: 3 Lines; 12 Character

## ELD-426SYGWA
designator *  value ELD-426SYGWA  Reference: U
Double 7 segment brilliant yellow green LED common anode; ki_keywords: display LED 7-segment; ki_fp_filters: *ELD*426*; Footprint: Display_7Segment:ELD_426XXXX; Datasheet: http://www.everlight.com/file/ProductFile/D426SYGWA-S530-E2.pdf; Description_: Double 7 segment brilliant yellow green LED common anode
pins: 1 d, 2 DP, 3 e, 4 c, 5 CA_D2, 6 b, 7 a, 8 f, 9 g, 10 CA_D1
text: D1; D2

## HDSM-441B
designator *  value HDSM-441B  Reference: U
Double 7 segment Blue LED common anode SMD mount; ki_keywords: display LED 7-segment; ki_fp_filters: *HDSM*441B*; Footprint: Display:HDSM-441B_HDSM-443B; Datasheet: https://docs.broadcom.com/docs/AV02-1589EN; Description_: Double 7 segment Blue LED common anode SMD mount
pins: 1 G, 2 DP, 3 A, 4 F, 5 CA_DIG2, 6 D, 7 E, 8 C, 9 B, 10 CA_DIG1

## HDSM-443B
designator *  value HDSM-443B  Reference: U
Double 7 segment Blue LED common cathode SMD mount; ki_keywords: display LED 7-segment; ki_fp_filters: *HDSM*441B*; Footprint: Display:HDSM-441B_HDSM-443B; Datasheet: https://docs.broadcom.com/docs/AV02-1589EN; Description_: Double 7 segment Blue LED common cathode SMD mount
pins: 1 G, 2 DP, 3 A, 4 F, 5 CC_DIG2, 6 D, 7 E, 8 C, 9 B, 10 CC_DIG1

## HDSM-541B
designator *  value HDSM-541B  Reference: U
Double 7 segment Blue LED common anode SMD mount; ki_keywords: display LED 7-segment; ki_fp_filters: HDSM?441B?HDSM?443B*; Footprint: Display:HDSM-441B_HDSM-443B; Datasheet: https://docs.broadcom.com/docs/AV02-1588EN; Description_: Double 7 segment Blue LED common anode SMD mount
pins: 1 G, 2 DP, 3 A, 4 F, 5 CA_DIG2, 6 D, 7 E, 8 C, 9 B, 10 CA_DIG1

## HDSM-543B
designator *  value HDSM-543B  Reference: U
Double 7 segment Blue LED common cathode SMD mount; ki_keywords: display LED 7-segment; ki_fp_filters: HDSM?541B?HDSM?543B*; Footprint: Display:HDSM-541B_HDSM-543B; Datasheet: https://docs.broadcom.com/docs/AV02-1588EN; Description_: Double 7 segment Blue LED common cathode SMD mount
pins: 1 G, 2 DP, 3 A, 4 F, 5 CC_DIG2, 6 D, 7 E, 8 C, 9 B, 10 CC_DIG1

## HDSP-7401
designator *  value HDSP-7401  Reference: U
One digit 7 segment yellow, common anode; ki_keywords: display LED 7-segment; ki_fp_filters: HDSP?7401*; Footprint: Display_7Segment:HDSP-7401; Datasheet: https://docs.broadcom.com/docs/AV02-2553EN; Description_: One digit 7 segment yellow, common anode
pins: 1 CA, 2 F, 3 G, 4 E, 5 D, 6 CA, 7 DP, 8 C, 9 B, 10 A

## HDSP-7403
designator *  value HDSP-7403  Reference: U
One digit 7 segment yellow, common cathode; ki_keywords: display LED 7-segment; ki_fp_filters: HDSP?7401*; Footprint: Display_7Segment:HDSP-7401; Datasheet: https://docs.broadcom.com/docs/AV02-2553EN; Description_: One digit 7 segment yellow, common cathode
pins: 1 CC, 2 F, 3 G, 4 E, 5 D, 6 CC, 7 DP, 8 C, 9 B, 10 A

## HDSP-7501
designator *  value HDSP-7501  Reference: U
One digit 7 segment high efficiency red, common anode; ki_keywords: display LED 7-segment; ki_fp_filters: HDSP?A151*; Footprint: Display_7Segment:HDSP-A151; Datasheet: https://docs.broadcom.com/docs/AV02-2553EN; Description_: One digit 7 segment high efficiency red, common anode
pins: 1 CA, 2 F, 3 G, 4 E, 5 D, 6 CA, 7 DP, 8 C, 9 B, 10 A

## HDSP-7503
designator *  value HDSP-7503  Reference: U
One digit 7 segment high efficiency red, common cathode; ki_keywords: display LED 7-segment; ki_fp_filters: HDSP?A151*; Footprint: Display_7Segment:HDSP-A151; Datasheet: https://docs.broadcom.com/docs/AV02-2553EN; Description_: One digit 7 segment high efficiency red, common cathode
pins: 1 CC, 2 F, 3 G, 4 E, 5 D, 6 CC, 7 DP, 8 C, 9 B, 10 A

## HDSP-7507
designator *  value HDSP-7507  Reference: U
+-1 overflow 7 segment high efficiency red, common anode; ki_keywords: display LED 7-segment; ki_fp_filters: HDSP?7507*; Footprint: Display_7Segment:HDSP-7507; Datasheet: https://docs.broadcom.com/docs/AV02-2553EN; Description_: +-1 overflow 7 segment high efficiency red, common anode
pins: 1 CA, 2 P, 3 M, 4 NC, 5 NC, 6 CA, 7 DP, 8 C, 9 B, 10 NC

## HDSP-7508
designator *  value HDSP-7508  Reference: U
+-1 overflow 7 segment high efficiency red, common cathode; ki_keywords: display LED 7-segment; ki_fp_filters: HDSP?7507*; Footprint: Display_7Segment:HDSP-7507; Datasheet: https://docs.broadcom.com/docs/AV02-2553EN; Description_: +-1 overflow 7 segment high efficiency red, common cathode
pins: 1 CC, 2 P, 3 M, 4 NC, 5 NC, 6 CC, 7 DP, 8 C, 9 B, 10 NC

## HDSP-7801
designator *  value HDSP-7801  Reference: U
One digit 7 segment green, common anode; ki_keywords: display LED 7-segment; ki_fp_filters: HDSP?7801*; Footprint: Display_7Segment:HDSP-7801; Datasheet: https://docs.broadcom.com/docs/AV02-2553EN; Description_: One digit 7 segment green, common anode
pins: 1 CA, 2 F, 3 G, 4 E, 5 D, 6 CA, 7 DP, 8 C, 9 B, 10 A

## HDSP-7803
designator *  value HDSP-7803  Reference: U
One digit 7 segment green, common cathode; ki_keywords: display LED 7-segment; ki_fp_filters: HDSP?7801*; Footprint: Display_7Segment:HDSP-7801; Datasheet: https://docs.broadcom.com/docs/AV02-2553EN; Description_: One digit 7 segment green, common cathode
pins: 1 CC, 2 F, 3 G, 4 E, 5 D, 6 CC, 7 DP, 8 C, 9 B, 10 A

## HDSP-7807
designator *  value HDSP-7807  Reference: U
+-1 overflow 7 segment green, common anode; ki_keywords: display LED 7-segment; ki_fp_filters: HDSP?7807*; Footprint: Display_7Segment:HDSP-7807; Datasheet: https://docs.broadcom.com/docs/AV02-2553EN; Description_: +-1 overflow 7 segment green, common anode
pins: 1 CA, 2 P, 3 M, 4 NC, 5 NC, 6 CA, 7 DP, 8 C, 9 B, 10 NC

## HDSP-7808
designator *  value HDSP-7808  Reference: U
+-1 overflow 7 segment green, common cathode; ki_keywords: display LED 7-segment; ki_fp_filters: HDSP?7807*; Footprint: Display_7Segment:HDSP-7807; Datasheet: https://docs.broadcom.com/docs/AV02-2553EN; Description_: +-1 overflow 7 segment green, common cathode
pins: 1 CC, 2 P, 3 M, 4 NC, 5 NC, 6 CC, 7 DP, 8 C, 9 B, 10 NC

## HDSP-A151
designator *  value HDSP-A151  Reference: U
One digit 7 segment red, common anode; ki_keywords: display LED 7-segment; ki_fp_filters: HDSP?A151*; Footprint: Display_7Segment:HDSP-A151; Datasheet: https://docs.broadcom.com/docs/AV02-2553EN; Description_: One digit 7 segment red, common anode
pins: 1 CA, 2 F, 3 G, 4 E, 5 D, 6 CA, 7 DP, 8 C, 9 B, 10 A

## HDSP-A153
designator *  value HDSP-A153  Reference: U
One digit 7 segment red, common cathode; ki_keywords: display LED 7-segment; ki_fp_filters: HDSP?A151*; Footprint: Display_7Segment:HDSP-A151; Datasheet: https://docs.broadcom.com/docs/AV02-2553EN; Description_: One digit 7 segment red, common cathode
pins: 1 CC, 2 F, 3 G, 4 E, 5 D, 6 CC, 7 DP, 8 C, 9 B, 10 A

## HDSP-A401
designator *  value HDSP-A401  Reference: U
One digit 7 segment orange, common anode; ki_keywords: display LED 7-segment; ki_fp_filters: HDSP?A401*; Footprint: Display_7Segment:HDSP-A401; Datasheet: https://docs.broadcom.com/docs/AV02-2553EN; Description_: One digit 7 segment orange, common anode
pins: 1 CA, 2 F, 3 G, 4 E, 5 D, 6 CA, 7 DP, 8 C, 9 B, 10 A

## HDSP-A403
designator *  value HDSP-A403  Reference: U
One digit 7 segment orange, common cathode; ki_keywords: display LED 7-segment; ki_fp_filters: HDSP?A401*; Footprint: Display_7Segment:HDSP-A401; Datasheet: https://docs.broadcom.com/docs/AV02-2553EN; Description_: One digit 7 segment orange, common cathode
pins: 1 CC, 2 F, 3 G, 4 E, 5 D, 6 CC, 7 DP, 8 C, 9 B, 10 A

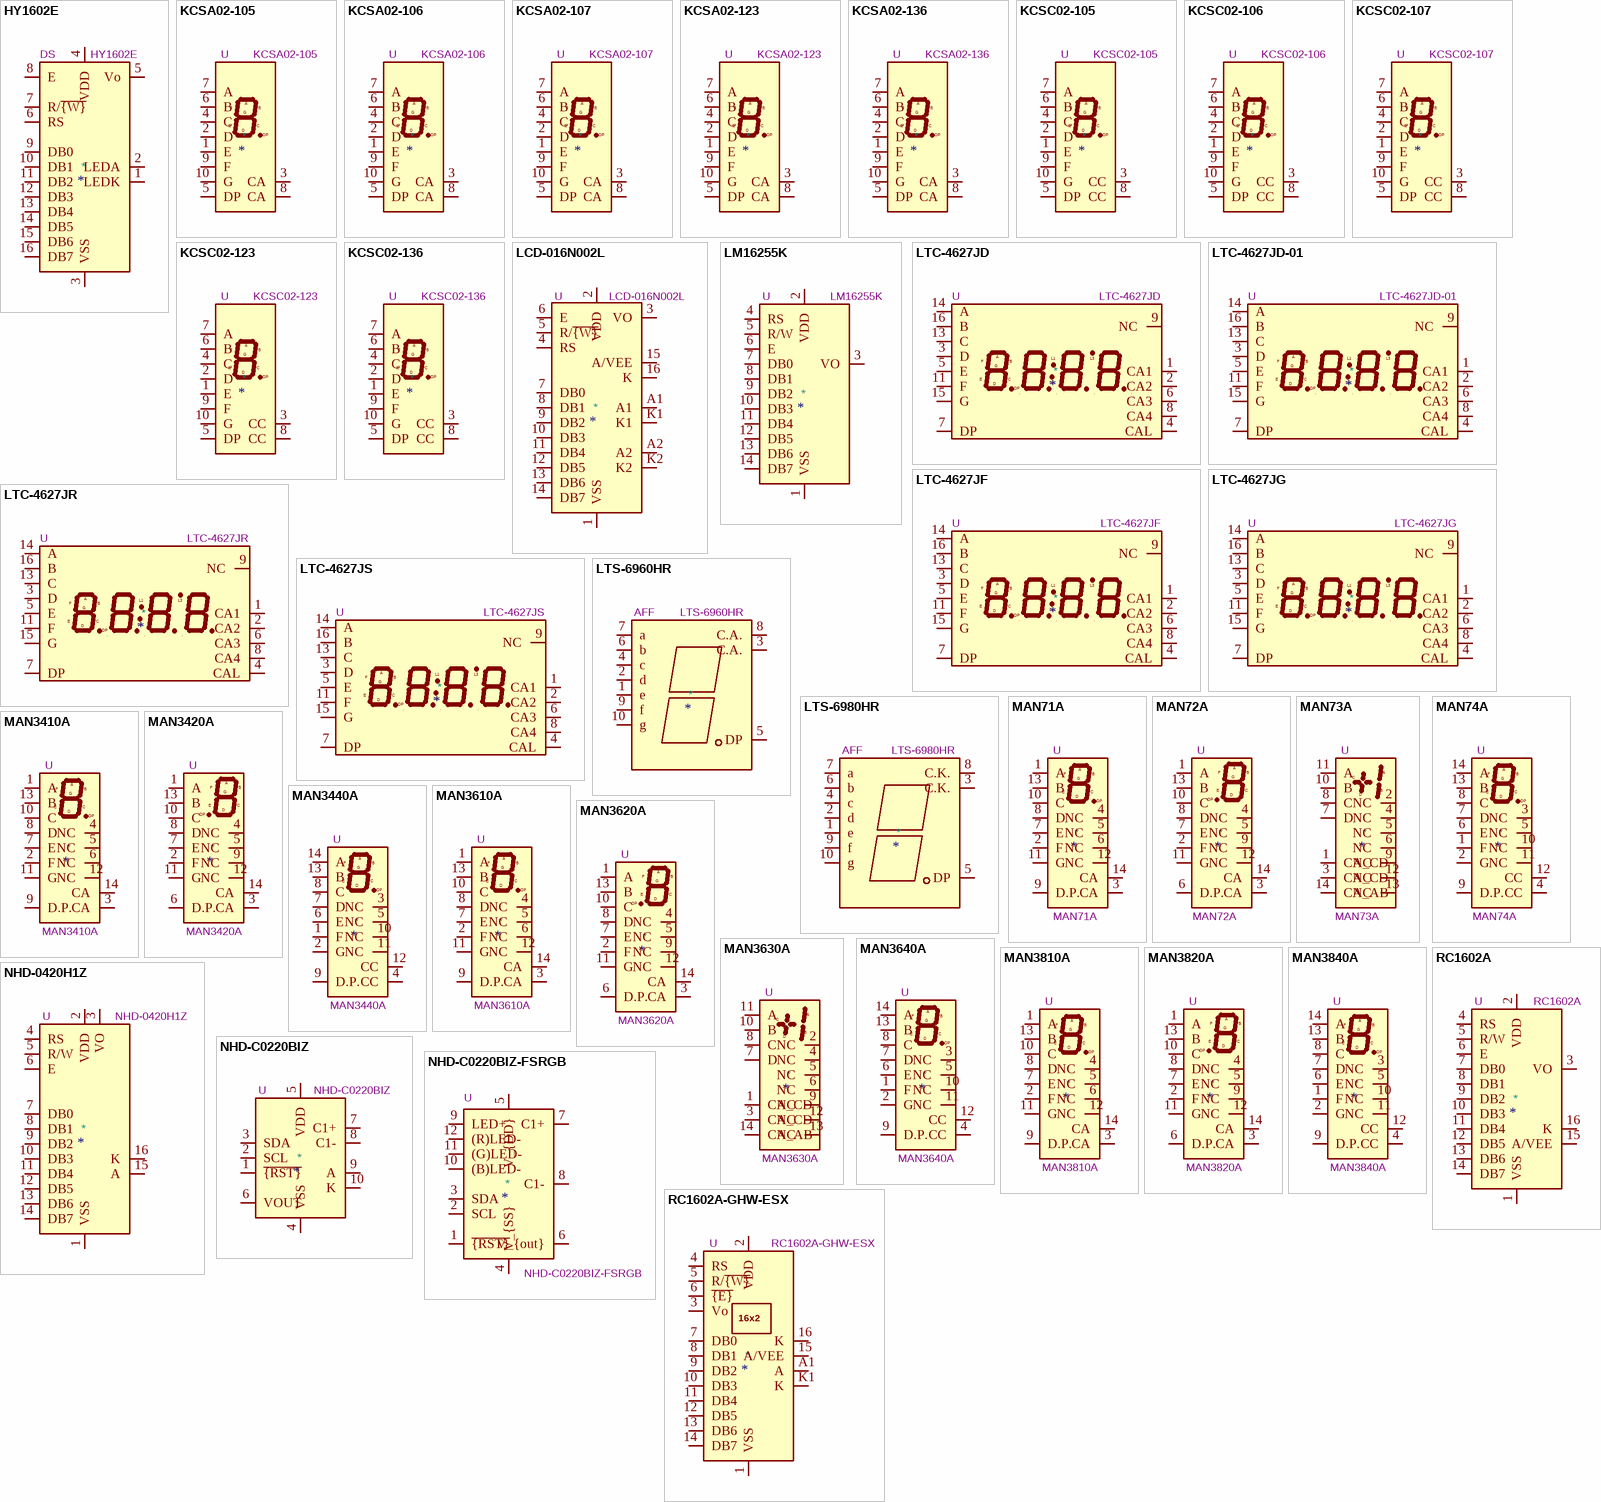
[diagram p2: symbols HY1602E to RC1602A-GHW-ESX]

## HY1602E
designator *  value HY1602E  Reference: DS
LCD 16x2 Alphanumeric 16pin Blue/Yellow/Green Backlight, 8bit parallel, 5V VDD; ki_keywords: display LCD 7-segment; ki_fp_filters: *HY1602E*; Footprint: Display:HY1602E; Datasheet: http://www.icbank.com/data/ICBShop/board/HY1602E.pdf; Description_: LCD 16x2 Alphanumeric 16pin Blue/Yellow/Green Backlight, 8bit parallel, 5V VDD
pins: 1 LEDK, 2 LEDA, 3 VSS, 4 VDD, 5 Vo, 6 RS, 7 R/~{{W}}, 8 E, 9 DB0, 10 DB1, 11 DB2, 12 DB3, 13 DB4, 14 DB5, 15 DB6, 16 DB7

## KCSA02-105
designator *  value KCSA02-105  Reference: U
One digit 7 segment hyper red LED, common anode; ki_keywords: display LED 7-segment; ki_fp_filters: *KCSC02*105*; Footprint: Display_7Segment:KCSC02-105; Datasheet: http://www.kingbright.com/attachments/file/psearch/000/00/00/KCSA02-105(Ver.10A).pdf; Description_: One digit 7 segment hyper red LED, common anode
pins: 1 E, 2 D, 3 CA, 4 C, 5 DP, 6 B, 7 A, 8 CA, 9 F, 10 G

## KCSA02-106
designator *  value KCSA02-106  Reference: U
One digit 7 segment super bright orange LED, common anode; ki_keywords: display LED 7-segment; ki_fp_filters: KCSC02?106*; Footprint: Display_7Segment:KCSC02-106; Datasheet: http://www.kingbright.com/attachments/file/psearch/000/00/00/KCSA02-106(Ver.11A).pdf; Description_: One digit 7 segment super bright orange LED, common anode
pins: 1 E, 2 D, 3 CA, 4 C, 5 DP, 6 B, 7 A, 8 CA, 9 F, 10 G

## KCSA02-107
designator *  value KCSA02-107  Reference: U
One digit 7 segment super bright orange LED, common anode; ki_keywords: display LED 7-segment; ki_fp_filters: KCSC02?107*; Footprint: Display_7Segment:KCSC02-107; Datasheet: http://www.kingbright.com/attachments/file/psearch/000/00/00/KCSA02-107(Ver.10A).pdf; Description_: One digit 7 segment super bright orange LED, common anode
pins: 1 E, 2 D, 3 CA, 4 C, 5 DP, 6 B, 7 A, 8 CA, 9 F, 10 G

## KCSA02-123
designator *  value KCSA02-123  Reference: U
One digit 7 segment green LED, common anode; ki_keywords: display LED 7-segment; ki_fp_filters: KCSC02?123*; Footprint: Display_7Segment:KCSC02-123; Datasheet: http://www.kingbright.com/attachments/file/psearch/000/00/00/KCSA02-123(Ver.9A).pdf; Description_: One digit 7 segment green LED, common anode
pins: 1 E, 2 D, 3 CA, 4 C, 5 DP, 6 B, 7 A, 8 CA, 9 F, 10 G

## KCSA02-136
designator *  value KCSA02-136  Reference: U
One digit 7 segment blue LED, common anode; ki_keywords: display LED 7-segment; ki_fp_filters: KCSC02?136*; Footprint: Display_7Segment:KCSC02-136; Datasheet: http://www.kingbright.com/attachments/file/psearch/000/00/00/KCSA02-136(Ver.7B).pdf; Description_: One digit 7 segment blue LED, common anode
pins: 1 E, 2 D, 3 CA, 4 C, 5 DP, 6 B, 7 A, 8 CA, 9 F, 10 G

## KCSC02-105
designator *  value KCSC02-105  Reference: U
One digit 7 segment hyper red LED, common cathode; ki_keywords: display LED 7-segment; ki_fp_filters: *KCSC02*105*; Footprint: Display_7Segment:KCSC02-105; Datasheet: http://www.kingbright.com/attachments/file/psearch/000/00/00/KCSC02-105(Ver.9A).pdf; Description_: One digit 7 segment hyper red LED, common cathode
pins: 1 E, 2 D, 3 CC, 4 C, 5 DP, 6 B, 7 A, 8 CC, 9 F, 10 G

## KCSC02-106
designator *  value KCSC02-106  Reference: U
One digit 7 segment super bright orange LED, common cathode; ki_keywords: display LED 7-segment; ki_fp_filters: KCSC02?106*; Footprint: Display_7Segment:KCSC02-106; Datasheet: http://www.kingbright.com/attachments/file/psearch/000/00/00/KCSC02-106(Ver.10A).pdf; Description_: One digit 7 segment super bright orange LED, common cathode
pins: 1 E, 2 D, 3 CC, 4 C, 5 DP, 6 B, 7 A, 8 CC, 9 F, 10 G

## KCSC02-107
designator *  value KCSC02-107  Reference: U
One digit 7 segment super bright orange LED, common cathode; ki_keywords: display LED 7-segment; ki_fp_filters: KCSC02?107*; Footprint: Display_7Segment:KCSC02-107; Datasheet: http://www.kingbright.com/attachments/file/psearch/000/00/00/KCSC02-106(Ver.10A).pdf; Description_: One digit 7 segment super bright orange LED, common cathode
pins: 1 E, 2 D, 3 CC, 4 C, 5 DP, 6 B, 7 A, 8 CC, 9 F, 10 G

## KCSC02-123
designator *  value KCSC02-123  Reference: U
One digit 7 segment green LED, common cathode; ki_keywords: display LED 7-segment; ki_fp_filters: KCSC02?123*; Footprint: Display_7Segment:KCSC02-123; Datasheet: http://www.kingbright.com/attachments/file/psearch/000/00/00/KCSC02-123(Ver.10A).pdf; Description_: One digit 7 segment green LED, common cathode
pins: 1 E, 2 D, 3 CC, 4 C, 5 DP, 6 B, 7 A, 8 CC, 9 F, 10 G

## KCSC02-136
designator *  value KCSC02-136  Reference: U
One digit 7 segment blue LED, common cathode; ki_keywords: display LED 7-segment; ki_fp_filters: KCSC02?136*; Footprint: Display_7Segment:KCSC02-136; Datasheet: http://www.kingbright.com/attachments/file/psearch/000/00/00/KCSC02-136(Ver.6B).pdf; Description_: One digit 7 segment blue LED, common cathode
pins: 1 E, 2 D, 3 CC, 4 C, 5 DP, 6 B, 7 A, 8 CC, 9 F, 10 G

## LCD-016N002L
designator *  value LCD-016N002L  Reference: U
LCD 12x2, 8 bit parallel bus, 3V or 5V VDD; ki_keywords: display LCD dot-matrix; ki_fp_filters: *LCD*016N002L*; Footprint: Display:LCD-016N002L; Datasheet: http://www.vishay.com/docs/37299/37299.pdf; Description_: LCD 12x2, 8 bit parallel bus, 3V or 5V VDD
pins: 1 VSS, 2 VDD, 3 VO, 4 RS, 5 R/~{{W}}, 6 E, 7 DB0, 8 DB1, 9 DB2, 10 DB3, 11 DB4, 12 DB5, 13 DB6, 14 DB7, 15 A/VEE, 16 K, A1, A2, K1, K2

## LM16255K
designator *  value LM16255K  Reference: U
2 Lines, 12 character reflective LCD; ki_keywords: display LCD dot-matrix; ki_fp_filters: *LM16255*; Footprint: Display:LM16255; Datasheet: http://pdf.datasheetcatalog.com/datasheet/Sharp/mXvtrzw.pdf; Description_: 2 Lines, 12 character reflective LCD
pins: 1 VSS, 2 VDD, 3 VO, 4 RS, 5 R/W, 6 E, 7 DB0, 8 DB1, 9 DB2, 10 DB3, 11 DB4, 12 DB5, 13 DB6, 14 DB7

## LTC-4627JD
designator *  value LTC-4627JD  Reference: U
4 digit 7 segment hyper red, common anode; ki_keywords: display LED 7-segment; ki_fp_filters: LTC?4627J*; Footprint: Display_7Segment:LTC-4627Jx; Datasheet: http://optoelectronics.liteon.com/upload/download/DS30-2001-093/LTC-4627JD.pdf; Description_: 4 digit 7 segment hyper red, common anode
pins: 1 CA1, 2 CA2, 3 D, 4 CAL, 5 E, 6 CA3, 7 DP, 8 CA4, 9 NC, 11 F, 13 C, 14 A, 15 G, 16 B
text: L1; L3; L2

## LTC-4627JD-01
designator *  value LTC-4627JD-01  Reference: U
4 digit 7 segment hyper red, common anode; ki_keywords: display LED 7-segment; ki_fp_filters: LTC?4627J*; Footprint: Display_7Segment:LTC-4627Jx; Datasheet: http://optoelectronics.liteon.com/upload/download/DS30-2008-0116/LTC-4627JD-01.pdf; Description_: 4 digit 7 segment hyper red, common anode
pins: 1 CA1, 2 CA2, 3 D, 4 CAL, 5 E, 6 CA3, 7 DP, 8 CA4, 9 NC, 11 F, 13 C, 14 A, 15 G, 16 B
text: L1; L3; L2

## LTC-4627JF
designator *  value LTC-4627JF  Reference: U
4 digit 7 segment yellow orange, common anode; ki_keywords: display LED 7-segment; ki_fp_filters: LTC?4627J*; Footprint: Display_7Segment:LTC-4627Jx; Datasheet: http://optoelectronics.liteon.com/upload/download/DS30-2000-192/C4627JF.pdf; Description_: 4 digit 7 segment yellow orange, common anode
pins: 1 CA1, 2 CA2, 3 D, 4 CAL, 5 E, 6 CA3, 7 DP, 8 CA4, 9 NC, 11 F, 13 C, 14 A, 15 G, 16 B
text: L1; L3; L2

## LTC-4627JG
designator *  value LTC-4627JG  Reference: U
4 digit 7 segment green, common anode; ki_keywords: display LED 7-segment; ki_fp_filters: LTC?4627J*; Footprint: Display_7Segment:LTC-4627Jx; Datasheet: http://optoelectronics.liteon.com/upload/download/DS30-2001-393/C4627JG.pdf; Description_: 4 digit 7 segment green, common anode
pins: 1 CA1, 2 CA2, 3 D, 4 CAL, 5 E, 6 CA3, 7 DP, 8 CA4, 9 NC, 11 F, 13 C, 14 A, 15 G, 16 B
text: L1; L3; L2

## LTC-4627JR
designator *  value LTC-4627JR  Reference: U
4 digit 7 segment super red, common anode; ki_keywords: display LED 7-segment; ki_fp_filters: LTC?4627J*; Footprint: Display_7Segment:LTC-4627Jx; Datasheet: http://optoelectronics.liteon.com/upload/download/DS30-2000-185/LTC-4627JR.pdf; Description_: 4 digit 7 segment super red, common anode
pins: 1 CA1, 2 CA2, 3 D, 4 CAL, 5 E, 6 CA3, 7 DP, 8 CA4, 9 NC, 11 F, 13 C, 14 A, 15 G, 16 B
text: L1; L3; L2

## LTC-4627JS
designator *  value LTC-4627JS  Reference: U
4 digit 7 segment yellow, common anode; ki_keywords: display LED 7-segment; ki_fp_filters: LTC?4627J*; Footprint: Display_7Segment:LTC-4627Jx; Datasheet: http://optoelectronics.liteon.com/upload/download/DS30-2000-186/LTC-4627JS.pdf; Description_: 4 digit 7 segment yellow, common anode
pins: 1 CA1, 2 CA2, 3 D, 4 CAL, 5 E, 6 CA3, 7 DP, 8 CA4, 9 NC, 11 F, 13 C, 14 A, 15 G, 16 B
text: L1; L3; L2

## LTS-6960HR
designator *  value LTS-6960HR  Reference: AFF
DISPLAY 7 SEGMENTS common A.; ki_keywords: display LED 7-segment; ki_fp_filters: 7SegmentLED?LTS6760?LTS6780*; Footprint: Display_7Segment:7SegmentLED_LTS6760_LTS6780; Datasheet: https://datasheet.octopart.com/LTS-6960HR-Lite-On-datasheet-11803242.pdf; Description_: DISPLAY 7 SEGMENTS common A.
pins: 1 e, 2 d, 3 C.A., 4 c, 5 DP, 6 b, 7 a, 8 C.A., 9 f, 10 g

## LTS-6980HR
designator *  value LTS-6980HR  Reference: AFF
DISPLAY 7 SEGMENTS common K, high efficient red; ki_keywords: display LED 7-segment; ki_fp_filters: 7SegmentLED?LTS6760?LTS6780*; Footprint: Display_7Segment:7SegmentLED_LTS6760_LTS6780; Datasheet: http://datasheet.octopart.com/LTS-6960HR-Lite-On-datasheet-11803242.pdf; Description_: DISPLAY 7 SEGMENTS common K, high efficient red
pins: 1 e, 2 d, 3 C.K., 4 c, 5 DP, 6 b, 7 a, 8 C.K., 9 f, 10 g

## MAN71A
designator *  value MAN71A  Reference: U
Single digit 7 segment red LED common anode right hand decimal; ki_keywords: display LED 7-segment; ki_fp_filters: *MAN71A*; Footprint: Display_7Segment:MAN71A; Datasheet: https://www.digchip.com/datasheets/parts/datasheet/161/MAN3640A-pdf.php; Description_: Single digit 7 segment red LED common anode right hand decimal
pins: 1 A, 2 F, 3 CA, 4 NC, 5 NC, 6 NC, 7 E, 8 D, 9 D.P., 10 C, 11 G, 12 NC, 13 B, 14 CA
text: DP

## MAN72A
designator *  value MAN72A  Reference: U
Single digit 7 segment red LED common anode left hand decimal; ki_keywords: display LED 7-segment; ki_fp_filters: MAN72A*; Footprint: Display_7Segment:MAN72A; Datasheet: https://www.digchip.com/datasheets/parts/datasheet/161/MAN3640A-pdf.php; Description_: Single digit 7 segment red LED common anode left hand decimal
pins: 1 A, 2 F, 3 CA, 4 NC, 5 NC, 6 D.P., 7 E, 8 D, 9 NC, 10 C, 11 G, 12 NC, 13 B, 14 CA
text: DP

## MAN73A
designator *  value MAN73A  Reference: U
Overflow 7 segment red LED common anode; ki_keywords: display LED 7-segment; ki_fp_filters: *MAN73A*; Footprint: Display_7Segment:MAN73A; Datasheet: https://www.digchip.com/datasheets/parts/datasheet/161/MAN3640A-pdf.php; Description_: Overflow 7 segment red LED common anode
pins: 1 CA_CD, 2 NC, 3 CA_CD, 4 NC, 5 NC, 6 NC, 7 D, 8 C, 9 NC, 10 B, 11 A, 12 NC, 13 NC, 14 CA_AB

## MAN74A
designator *  value MAN74A  Reference: U
Single digit 7 segment red LED common anode right hand decimal; ki_keywords: display LED 7-segment; ki_fp_filters: MAN71A*; Footprint: Display_7Segment:MAN71A; Datasheet: https://www.digchip.com/datasheets/parts/datasheet/161/MAN3640A-pdf.php; Description_: Single digit 7 segment red LED common anode right hand decimal
pins: 1 F, 2 G, 3 NC, 4 CC, 5 NC, 6 E, 7 D, 8 C, 9 D.P., 10 NC, 11 NC, 12 CC, 13 B, 14 A
text: DP

## MAN3410A
designator *  value MAN3410A  Reference: U
Single digit 7 segment high efficient green LED common anode right hand decimal; ki_keywords: display LED 7-segment; ki_fp_filters: *MAN3410A*; Footprint: Display_7Segment:MAN3410A; Datasheet: https://www.digchip.com/datasheets/parts/datasheet/161/MAN3640A-pdf.php; Description_: Single digit 7 segment high efficient green LED common anode right hand decimal
pins: 1 A, 2 F, 3 CA, 4 NC, 5 NC, 6 NC, 7 E, 8 D, 9 D.P., 10 C, 11 G, 12 NC, 13 B, 14 CA
text: DP

## MAN3420A
designator *  value MAN3420A  Reference: U
Single digit 7 segment high efficient green LED common anode left hand decimal; ki_keywords: display LED 7-segment; ki_fp_filters: *MAN3420A*; Footprint: Display_7Segment:MAN3420A; Datasheet: https://www.digchip.com/datasheets/parts/datasheet/161/MAN3640A-pdf.php; Description_: Single digit 7 segment high efficient green LED common anode left hand decimal
pins: 1 A, 2 F, 3 CA, 4 NC, 5 NC, 6 D.P., 7 E, 8 D, 9 NC, 10 C, 11 G, 12 NC, 13 B, 14 CA
text: DP

## MAN3440A
designator *  value MAN3440A  Reference: U
Single digit 7 segment high efficient green LED common anode right hand decimal; ki_keywords: display LED 7-segment; ki_fp_filters: MAN3410A*; Footprint: Display_7Segment:MAN3410A; Datasheet: https://www.digchip.com/datasheets/parts/datasheet/161/MAN3640A-pdf.php; Description_: Single digit 7 segment high efficient green LED common anode right hand decimal
pins: 1 F, 2 G, 3 NC, 4 CC, 5 NC, 6 E, 7 D, 8 C, 9 D.P., 10 NC, 11 NC, 12 CC, 13 B, 14 A
text: DP

## MAN3610A
designator *  value MAN3610A  Reference: U
Single digit 7 segment orange LED common anode right hand decimal; ki_keywords: display LED 7-segment; ki_fp_filters: *MAN3610A*; Footprint: Display_7Segment:MAN3610A; Datasheet: https://www.digchip.com/datasheets/parts/datasheet/161/MAN3640A-pdf.php; Description_: Single digit 7 segment orange LED common anode right hand decimal
pins: 1 A, 2 F, 3 CA, 4 NC, 5 NC, 6 NC, 7 E, 8 D, 9 D.P., 10 C, 11 G, 12 NC, 13 B, 14 CA
text: DP

## MAN3620A
designator *  value MAN3620A  Reference: U
Single digit 7 segment orange LED common anode left hand decimal; ki_keywords: display LED 7-segment; ki_fp_filters: *MAN3620A*; Footprint: Display_7Segment:MAN3620A; Datasheet: https://www.digchip.com/datasheets/parts/datasheet/161/MAN3640A-pdf.php; Description_: Single digit 7 segment orange LED common anode left hand decimal
pins: 1 A, 2 F, 3 CA, 4 NC, 5 NC, 6 D.P., 7 E, 8 D, 9 NC, 10 C, 11 G, 12 NC, 13 B, 14 CA
text: DP

## MAN3630A
designator *  value MAN3630A  Reference: U
Overflow 7 segment orange LED common anode; ki_keywords: display LED 7-segment; ki_fp_filters: *MAN3630A*; Footprint: Display_7Segment:MAN3630A; Datasheet: https://www.digchip.com/datasheets/parts/datasheet/161/MAN3640A-pdf.php; Description_: Overflow 7 segment orange LED common anode
pins: 1 CA_CD, 2 NC, 3 CA_CD, 4 NC, 5 NC, 6 NC, 7 D, 8 C, 9 NC, 10 B, 11 A, 12 NC, 13 NC, 14 CA_AB

## MAN3640A
designator *  value MAN3640A  Reference: U
Single digit 7 segment orange LED common anode right hand decimal; ki_keywords: display LED 7-segment; ki_fp_filters: MAN3610A*; Footprint: Display_7Segment:MAN3610A; Datasheet: https://www.digchip.com/datasheets/parts/datasheet/161/MAN3640A-pdf.php; Description_: Single digit 7 segment orange LED common anode right hand decimal
pins: 1 F, 2 G, 3 NC, 4 CC, 5 NC, 6 E, 7 D, 8 C, 9 D.P., 10 NC, 11 NC, 12 CC, 13 B, 14 A
text: DP

## MAN3810A
designator *  value MAN3810A  Reference: U
Single digit 7 segment yellow LED common anode right hand decimal; ki_keywords: display LED 7-segment; ki_fp_filters: *MAN3810A*; Footprint: Display_7Segment:MAN3810A; Datasheet: https://www.digchip.com/datasheets/parts/datasheet/161/MAN3640A-pdf.php; Description_: Single digit 7 segment yellow LED common anode right hand decimal
pins: 1 A, 2 F, 3 CA, 4 NC, 5 NC, 6 NC, 7 E, 8 D, 9 D.P., 10 C, 11 G, 12 NC, 13 B, 14 CA
text: DP

## MAN3820A
designator *  value MAN3820A  Reference: U
Single digit 7 segment yellow LED common anode left hand decimal; ki_keywords: display LED 7-segment; ki_fp_filters: *MAN3820A*; Footprint: Display_7Segment:MAN3820A; Datasheet: https://www.digchip.com/datasheets/parts/datasheet/161/MAN3640A-pdf.php; Description_: Single digit 7 segment yellow LED common anode left hand decimal
pins: 1 A, 2 F, 3 CA, 4 NC, 5 NC, 6 D.P., 7 E, 8 D, 9 NC, 10 C, 11 G, 12 NC, 13 B, 14 CA
text: DP

## MAN3840A
designator *  value MAN3840A  Reference: U
Single digit 7 segment yellow LED common anode right hand decimal; ki_keywords: display LED 7-segment; ki_fp_filters: MAN3810A*; Footprint: Display_7Segment:MAN3810A; Datasheet: https://www.digchip.com/datasheets/parts/datasheet/161/MAN3640A-pdf.php; Description_: Single digit 7 segment yellow LED common anode right hand decimal
pins: 1 F, 2 G, 3 NC, 4 CC, 5 NC, 6 E, 7 D, 8 C, 9 D.P., 10 NC, 11 NC, 12 CC, 13 B, 14 A
text: DP

## NHD-0420H1Z
designator *  value NHD-0420H1Z  Reference: U
LCD 20x4 Alphanumeric 16pin Blue/White/Green Backlight, 8bit parallel, 3.3V VDD; ki_keywords: display LCD 20x4; ki_fp_filters: NHD*0420H1Z*; Footprint: Display:NHD-0420H1Z; Datasheet: http://www.newhavendisplay.com/specs/NHD-0420H1Z-FSW-GBW-33V3.pdf; Description_: LCD 20x4 Alphanumeric 16pin Blue/White/Green Backlight, 8bit parallel, 3.3V VDD
pins: 1 VSS, 2 VDD, 3 VO, 4 RS, 5 R/W, 6 E, 7 DB0, 8 DB1, 9 DB2, 10 DB3, 11 DB4, 12 DB5, 13 DB6, 14 DB7, 15 A, 16 K